# Altium footprint library IRLZ44N.PcbLib: 10 footprints
Each footprint in its own frame and in the unit in brackets; x right, y up, seen from the top. Pads: shape width x height; smd on the part's side, far side on the other; paste and mask are expansions set on the pad; w line width, h text height; cw(c..) or ccw(c..) is an arc to the next point about the centre after c.
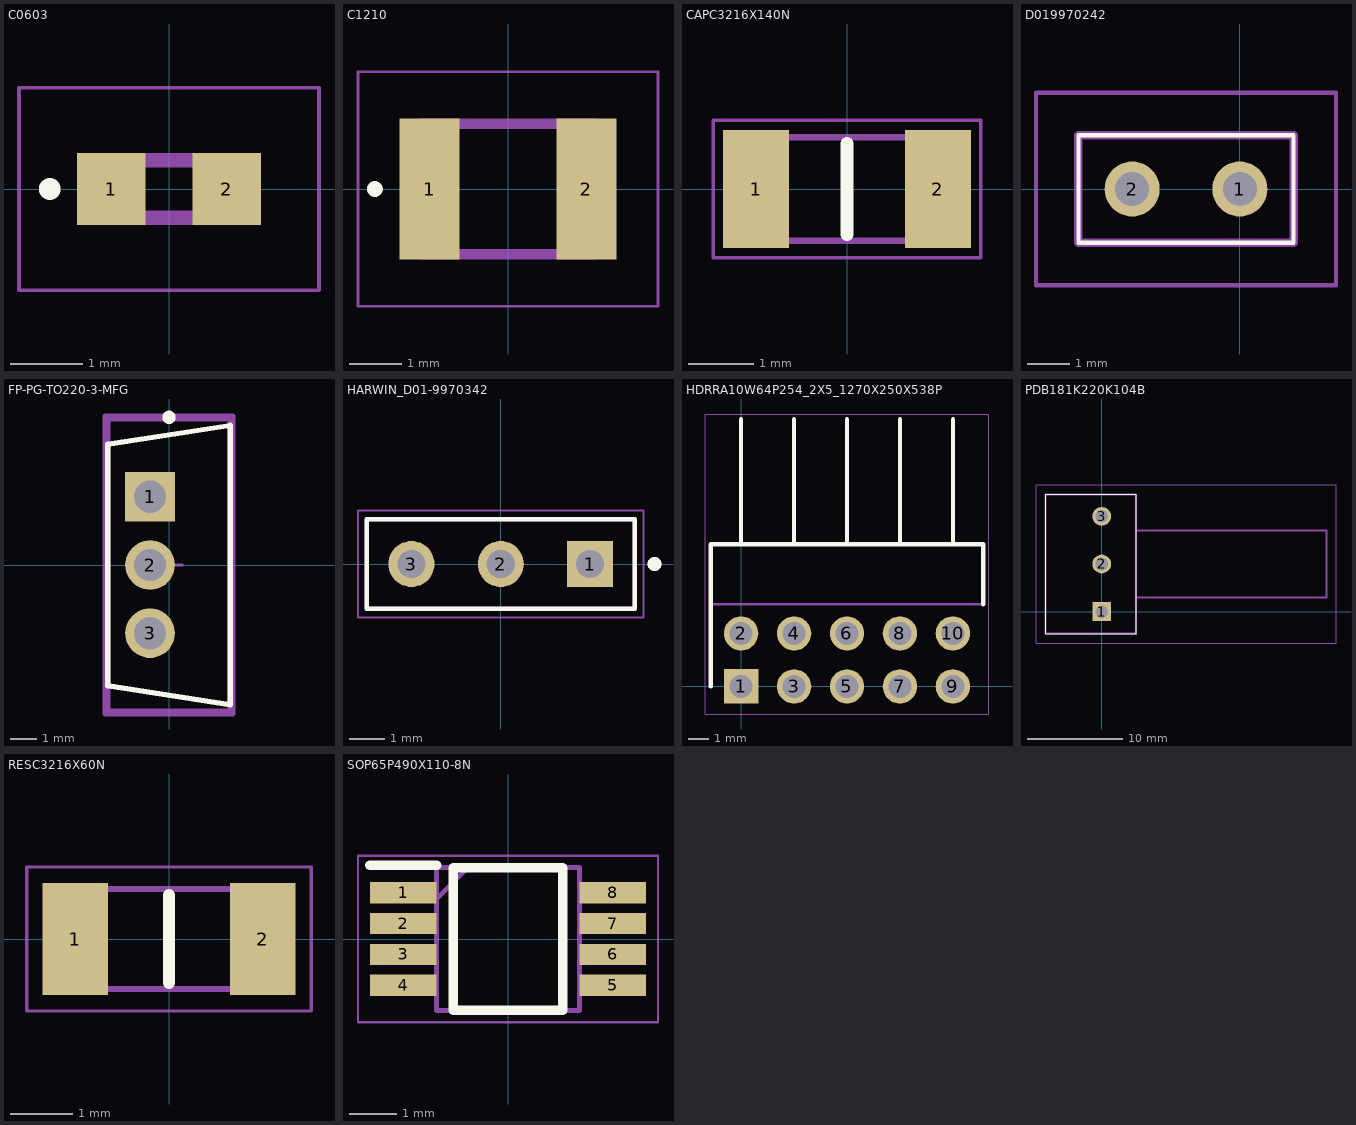
[diagram p0: the footprints below, top view; thin cyan lines are the x and y axes]

## C0603 [mm]
pads (2):
  rect 0.95x1 smd: 1(-0.8,0) 2(0.8,0)
Top Overlay:
  circle w0.2: c-1.65,0 r0.05
Top 3D Body:
  lines w0.2: -0.8,-0.4 -0.8,0.4 0.8,0.4 0.8,-0.4 -0.8,-0.4
Top Courtyard:
  lines w0.05: -2.075,-1.4 -2.075,1.4 2.075,1.4 2.075,-1.4 -2.075,-1.4
3D body "C0603X104M3RACTU.stp": height 0.87, standoff 0, extent -0.87,-0.48 0.88,0.47

## C1210 [mm]
pads (2):
  rect 1.15x2.7 smd: 1(-1.5,0) 2(1.5,0)
Top Overlay:
  circle w0.2: c-2.55,0 r0.05
Top 3D Body:
  lines w0.2: -1.65,-1.25 -1.65,1.25 1.65,1.25 1.65,-1.25 -1.65,-1.25
Top Courtyard:
  lines w0.05: -2.875,-2.25 -2.875,2.25 2.875,2.25 2.875,-2.25 -2.875,-2.25
3D body "C1210C106M3PACTU.stp": height 2.1, standoff 0, extent -1.8,-1.4 1.8,1.4

## CAPC3216X140N [mm]
pads (2):
  rect 1.02x1.82 smd: 1(-1.4,0) 2(1.4,0)
Top Overlay:
  lines w0.2: 0,-0.7 0,0.7
Top Courtyard:
  lines w0.1: -1.6,-0.8 1.6,-0.8 1.6,0.8 -1.6,0.8 -1.6,-0.8
Bottom Assembly (Mech20):
  lines w0.05: -2.06,-1.06 2.06,-1.06 2.06,1.06 -2.06,1.06 -2.06,-1.06
3D body "C1206C105K3RAC7800.stp": height 1.4, standoff 0, extent -1.827,-0.889 1.573,0.911

## D019970242 [mm]
pads (2):
  round 1.3 hole 0.8: 1(0,0) 2(-2.54,0)
Top Overlay:
  lines w0.1: -3.81,-1.27 1.27,-1.27 1.27,1.27 -3.81,1.27 -3.81,-1.27
Top Courtyard:
  lines w0.2: -3.81,-1.27 1.27,-1.27 1.27,1.27 -3.81,1.27 -3.81,-1.27
Bottom Assembly (Mech20):
  lines w0.1: -4.81,-2.27 2.27,-2.27 2.27,2.27 -4.81,2.27 -4.81,-2.27
3D body "D01-9970242.stp": height 4.22, standoff -3.15, extent -3.81,-1.27 1.27,1.27

## FP-PG-TO220-3-MFG [mm]
pads (3):
  rect 1.85x1.85 hole 1.2 paste-2539.97 mask+0: 1(-0.705,2.54)
  round 1.85 hole 1.2 paste-2539.97 mask+0: 2(-0.705,0) 3(-0.705,-2.54)
Top Overlay:
  circle w0.25: c0,5.5 r0.125
  lines w0.2: -2.275,-4.5 -2.275,4.5 2.275,5.2 2.275,-5.2 -2.275,-4.5
Top Assembly:
  lines w0.2: -2.375,-5.55 -2.375,5.55 2.375,5.55 2.375,-5.55 -2.375,-5.55
  text ".Designator" at 0,-0.001 h1
Top 3D Body:
  lines w0.2: -2.275,-5.45 -2.275,5.45 2.275,5.45 2.275,-5.45 -2.275,-5.45
Top Courtyard:
  lines w0.2: -2.375,-5.55 -2.375,5.55 2.375,5.55 2.375,-5.55 -2.375,-5.55
Top Component Center:
  lines w0.1: -0.5,0 0.5,0 ; 0,-0.5 0,0.5
3D body "TO-220-3 Bend Mirror.stp": height 4.41, standoff -3, extent -20.299,-5.942 -0.455,5.942

## HARWIN_D01-9970342 [mm]
pads (3):
  rect 1.308x1.308 / inner round 1.308 / far side rect 1.308x1.308 hole 0.8: 1(2.54,0)
  round 1.308 hole 0.8: 2(0,0) 3(-2.54,0)
Top Overlay:
  circle w0.2: c4.37,0 r0.1
  lines w0.127: -3.81,-1.27 3.81,-1.27 3.81,1.27 -3.81,1.27 -3.81,-1.27
Top 3D Body:
  circle w0.2: c4.37,0 r0.1
  lines w0.127: -3.81,-1.27 3.81,-1.27 3.81,1.27 -3.81,1.27 -3.81,-1.27
Top Courtyard:
  lines w0.05: -4.06,-1.52 4.06,-1.52 4.06,1.52 -4.06,1.52 -4.06,-1.52
3D body "d01-9970342.stp": height 4.22, standoff -3.15, extent -3.81,-1.27 3.81,1.27

## HDRRA10W64P254_2X5_1270X250X538P [mm]
pads (10):
  rect 1.65x1.65 / inner round 1.65 / far side rect 1.65x1.65 hole 1.1: 1(0,0)
  round 1.65 hole 1.1: 2(0,2.54) 3(2.54,0) 4(2.54,2.54) 5(5.08,0) 6(5.08,2.54) 7(7.62,0) 8(7.62,2.54) 9(10.16,0) 10(10.16,2.54)
Top Overlay:
  lines w0.2: -1.46,0 -1.46,6.821 11.621,6.821 11.621,3.94 ; 0,6.821 0,12.821 ; 2.54,6.821 2.54,12.821 ; 5.08,6.821 5.08,12.821 ; 7.62,6.821 7.62,12.821 ; 10.16,6.821 10.16,12.821
Top Courtyard:
  lines w0.1: -1.46,3.94 -1.46,6.821 11.621,6.821 11.621,3.94 -1.46,3.94
Bottom Assembly (Mech20):
  lines w0.05: -1.71,-1.325 11.871,-1.325 11.871,13.071 -1.71,13.071 -1.71,-1.325
3D body "PH2RA-10-UA.stp": height 5.38, standoff -3.38, extent -1.46,-0.254 11.62,13.268

## PDB181K220K104B [mm]
pads (3):
  rect 1.98x1.98 hole 1.32: 1(0,0)
  round 1.98 hole 1.32: 2(0,5) 3(0,10)
Top Overlay:
  lines w0.1: -5.9,-2.3 -1.4,-2.3 3.6,-2.3 3.6,12.3 -1.4,12.3 -5.9,12.3 -5.9,-2.3
Top 3D Body:
  lines w0.2: 3.6,1.5 23.6,1.5 23.6,8.5 3.6,8.5 ; -5.9,-2.3 -5.9,12.3 3.6,12.3 3.6,-2.3 -5.9,-2.3
Top Courtyard:
  lines w0.1: -6.9,-3.3 -6.9,13.3 24.6,13.3 24.6,-3.3 -6.9,-3.3
3D body "PDB181-K420K-502B.stp": height 21.2, standoff -3.8, extent -5.58,-3.5 18.92,13.494

## RESC3216X60N [mm]
pads (2):
  rect 1.05x1.8 smd: 1(-1.5,0) 2(1.5,0)
Top Overlay:
  lines w0.2: 0,-0.7 0,0.7
Top Courtyard:
  lines w0.1: -1.575,-0.8 1.575,-0.8 1.575,0.8 -1.575,0.8 -1.575,-0.8
Bottom Assembly (Mech20):
  lines w0.05: -2.275,-1.15 2.275,-1.15 2.275,1.15 -2.275,1.15 -2.275,-1.15
3D body "CRCW120610R0FKTC.stp": height 0.55, standoff 0, extent -1.7,-0.8 1.5,0.8

## SOP65P490X110-8N [mm]
pads (8):
  rect 1.4x0.45 smd: 1(-2.2,0.975) 2(-2.2,0.325) 3(-2.2,-0.325) 4(-2.2,-0.975) 5(2.2,-0.975) 6(2.2,-0.325) 7(2.2,0.325) 8(2.2,0.975)
Top Overlay:
  lines w0.2: -2.9,1.55 -1.5,1.55 ; -1.15,-1.5 -1.15,1.5 1.15,1.5 1.15,-1.5 -1.15,-1.5
Top Courtyard:
  lines w0.1: -1.5,0.85 -0.85,1.5 ; -1.5,-1.5 -1.5,1.5 1.5,1.5 1.5,-1.5 -1.5,-1.5
Bottom Assembly (Mech20):
  lines w0.05: -3.15,-1.75 -3.15,1.75 3.15,1.75 3.15,-1.75 -3.15,-1.75